# EAGLE library part AMPHENOL_RJ45_RJHSE-5381 (library Nwazet.Go)
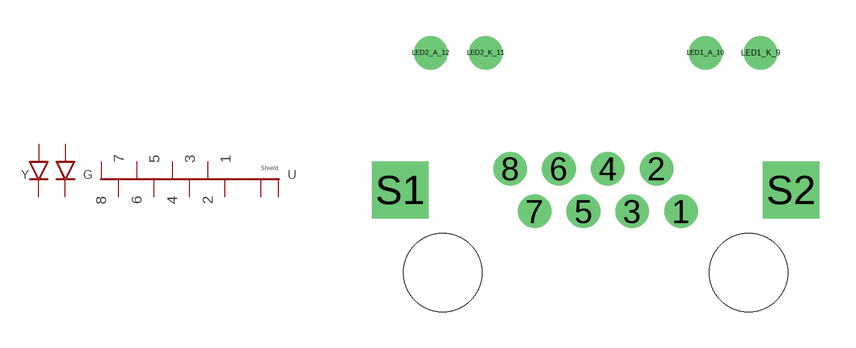
[diagram p25: symbol with the pads of AMPHENOL_RJ45_RJHSE-5381; footprint AMPHENOL_RJ45_RJHSE-5381]

Designator prefix -

## AMPHENOL_RJ45_RJHSE-5381  [AMPHENOL_RJ45_RJHSE-5381]
1  1
2  2
3  3
4  4
5  5
6  6
7  7
8  8
LED1_A_10  LED1_A_10
LED1_K_9  LED1_K_9  pas
LED2_A_12  LED2_A_12
LED2_K_11  LED2_K_11  pas
S1  S1_GND  pas
S2  S2_GND  pas

## Footprint AMPHENOL_RJ45_RJHSE-5381 (pad centres in mm)
drill 0.89: 1 3.55,2.54; 2 2.53,4.32; 3 1.52,2.54; 4 0.5,4.32; 5 -0.51,2.54; 6 -1.53,4.32; 7 -2.54,2.54; 8 -3.56,4.32; LED1_A_10 4.57,9.14; LED1_K_9 6.86,9.14; LED2_A_12 -6.86,9.14; LED2_K_11 -4.57,9.14
drill 1.57 square: S1 -8.13,3.43; S2 8.13,3.43
hole 3.255 at 6.35,0
hole 3.255 at -6.35,0